# Altium schematic symbol library jumper - 3pin.SchLib: 1 symbol
Pins are listed as number, name and electrical type; pins without a type are passive.

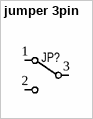
[diagram p0: symbol jumper 3pin]

## jumper 3pin
designator JP?
Double pos jumper (switcher)
pins: 1, 2, 3